# Altium footprint library MDBT42Q.PcbLib: 8 footprints
Each footprint in its own frame and in the unit in brackets; x right, y up, seen from the top. Pads: shape width x height; smd on the part's side, far side on the other; paste and mask are expansions set on the pad; w line width, h text height; cw(c..) or ccw(c..) is an arc to the next point about the centre after c.
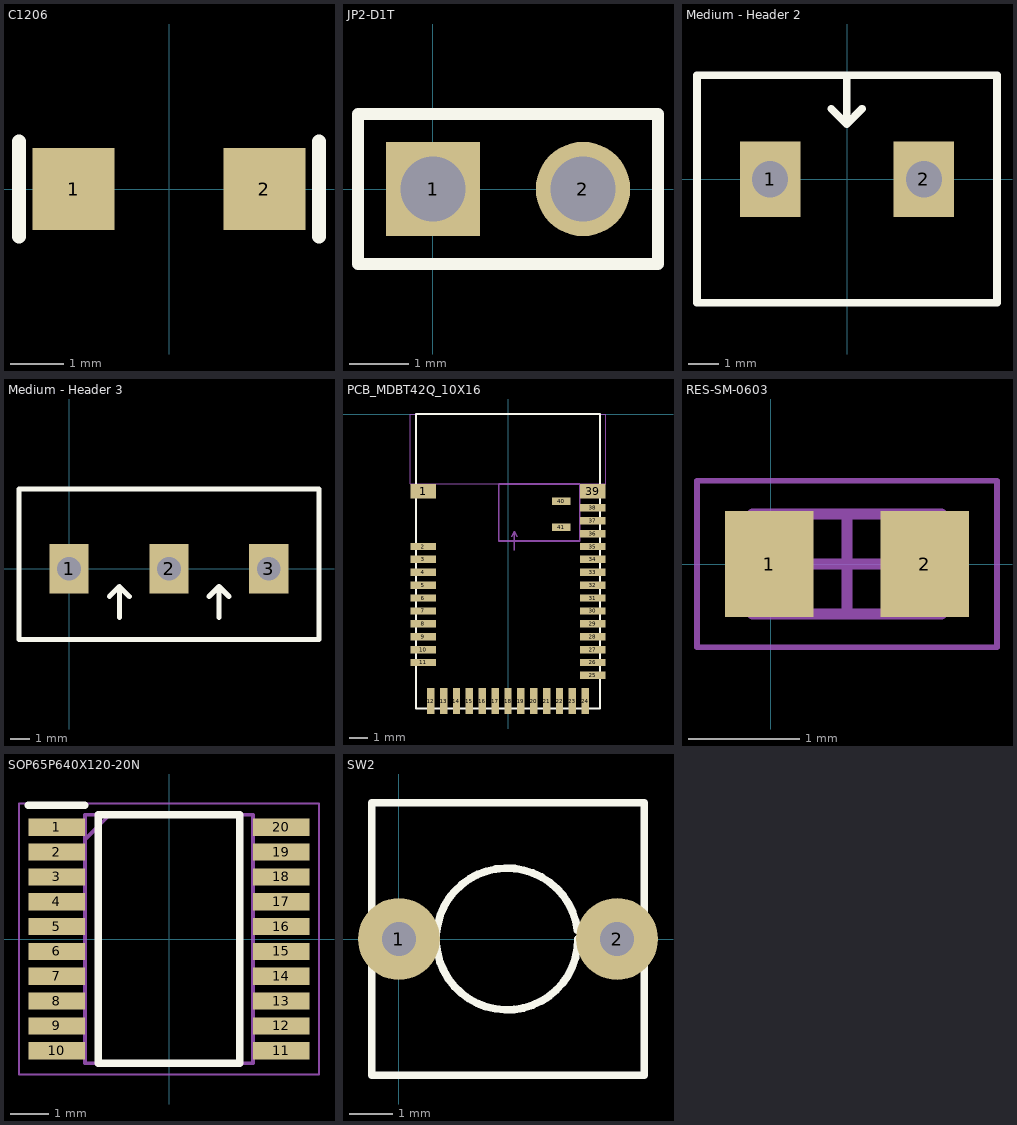
[diagram p0: the footprints below, top view; thin cyan lines are the x and y axes]

## C1206 [mil]
pads (2):
  rect 60x60 smd: 1(-70,0) 2(70,0)
Top Overlay:
  lines w10: -110,-35 -110,35 ; 110,-35 110,35
3D body: height 40, standoff 0, extent -35,-35 35,35
3D body "User Library-1206 SMD Capacitor.step": height 39.45, standoff 0, extent -62.99,-31.49 63,31.5

## JP2-D1T [mm] "2 pins, 1 row, straight, gold plating"
height 8.54
pads (2):
  rect 1.6x1.6 hole 1.1: 1(0,0)
  round 1.6 hole 1.1: 2(2.54,0)
Top Overlay:
  lines w0.2: -1.27,-1.27 3.81,-1.27 3.81,1.27 -1.27,1.27 -1.27,-1.27
3D body "61300211121.stp": height 8.54, standoff -3, extent -1.27,-1.27 3.81,1.27

## Medium - Header 2 [mm]
height 2.54
pads (2):
  rect 2x2.5 hole 1.2: 1(-2.54,0) 2(2.54,0)
Top Overlay:
  lines w0.254: -0.521,2.324 -0.013,1.816 ; -0.013,3.378 -0.013,1.816 ; 0.495,2.324 -0.013,1.816 ; -4.953,-4.077 4.953,-4.077 4.953,3.429 -4.953,3.429 -4.953,-4.077
3D body "SW3DPS-HDR1x2-MED-GREEN.STEP": height 10, standoff -4, extent -5,-4.071 5,3.429

## Medium - Header 3 [mm]
height 2.54
pads (3):
  rect 2x2.5 hole 1.2: 1(0,0) 2(5.08,0) 3(10.147,0)
Top Overlay:
  lines w0.254: 2.045,-1.41 2.553,-0.902 ; 2.553,-2.464 2.553,-0.902 ; 3.061,-1.41 2.553,-0.902 ; 7.112,-1.41 7.62,-0.902 ; 7.62,-2.464 7.62,-0.902 ; 8.128,-1.41 7.62,-0.902 ; -2.54,-3.581 -2.54,4.064 12.7,4.064 12.7,-3.581 -2.54,-3.581
3D body "SW3DPS-HDR1x3-MED-GREEN.STEP": height 10, standoff -4, extent -2.42,-3.505 12.58,3.995

## PCB_MDBT42Q_10X16 [mm]
pads (41):
  rect 1.4x0.8 smd: 1(-4.6,-4.2) 39(4.6,-4.2)
  rect 1.4x0.4 smd: 2(-4.6,-7.2) 3(-4.6,-7.9) 4(-4.6,-8.6) 5(-4.6,-9.3) 6(-4.6,-10) 7(-4.6,-10.7) 8(-4.6,-11.4) 9(-4.6,-12.1) 10(-4.6,-12.8) 11(-4.6,-13.5) 25(4.6,-14.2) 26(4.6,-13.5) 27(4.6,-12.8) 28(4.6,-12.1) 29(4.6,-11.4) 30(4.6,-10.7) 31(4.6,-10) 32(4.6,-9.3) 33(4.6,-8.6) 34(4.6,-7.9) 35(4.6,-7.2) 36(4.6,-6.5) 37(4.6,-5.8) 38(4.6,-5.1)
  rect 0.4x1.4 smd: 12(-4.2,-15.6) 13(-3.5,-15.6) 14(-2.8,-15.6) 15(-2.1,-15.6) 16(-1.4,-15.6) 17(-0.7,-15.6) 18(0,-15.6) 19(0.7,-15.6) 20(1.4,-15.6) 21(2.1,-15.6) 22(2.8,-15.6) 23(3.5,-15.6) 24(4.2,-15.6)
  rect 1x0.4 smd: 40(2.9,-4.75) 41(2.9,-6.15)
Top Overlay:
  lines w0.1: -5,-16 5,-16 5,0 0,0 -5,0 -5,-16
Mechanical 2:
  lines w0.05: -5.3,-3.8 -5.3,0 5.3,0 5.3,-3.8 3.9,-3.8 -0.5,-3.8 -5.3,-3.8
  text "No ground pad" at -2.615,-1.89 h0.45
Mechanical 3:
  lines w0.08: 0.2,-6.675 0.35,-6.375 ; 0.35,-7.4 0.35,-6.375 ; 0.5,-6.675 0.35,-6.375
  lines w0.1: -0.5,-6.9 -0.5,-3.8 3.9,-3.8 3.9,-6.9 -0.5,-6.9
  text "Toplayer no ground pad" at -2.8,-7.775 h0.3

## RES-SM-0603 [mm]
height 2.54
pads (2):
  rect 0.8x0.95 smd: 1(-0.014,0) 2(1.386,0)
Mechanical 13:
  lines w0.1: -0.164,-0.45 1.536,-0.45 1.536,0.45 -0.164,0.45 -0.164,-0.45
Mechanical 15:
  lines w0.05: -0.664,-0.75 2.036,-0.75 2.036,0.75 -0.664,0.75 -0.664,-0.75
  lines w0.1: 0.236,0 1.136,0 ; 0.686,-0.45 0.686,0.45
3D body "User Library-0603 SMD Capacitor.step": height 0.3, standoff 0, extent -0.114,-0.4 1.486,0.4

## SOP65P640X120-20N [mm]
pads (20):
  rect 1.475x0.45 smd: 1(-2.938,2.925) 2(-2.938,2.275) 3(-2.938,1.625) 4(-2.938,0.975) 5(-2.938,0.325) 6(-2.938,-0.325) 7(-2.938,-0.975) 8(-2.938,-1.625) 9(-2.938,-2.275) 10(-2.938,-2.925) 11(2.938,-2.925) 12(2.938,-2.275) 13(2.938,-1.625) 14(2.938,-0.975) 15(2.938,-0.325) 16(2.938,0.325) 17(2.938,0.975) 18(2.938,1.625) 19(2.938,2.275) 20(2.938,2.925)
Top Overlay:
  lines w0.2: -3.675,3.5 -2.2,3.5 ; -1.85,-3.25 1.85,-3.25 1.85,3.25 -1.85,3.25 -1.85,-3.25
Mechanical 15:
  lines w0.1: -2.2,2.6 -1.55,3.25 ; -2.2,-3.25 2.2,-3.25 2.2,3.25 -2.2,3.25 -2.2,-3.25
Mechanical 16:
  lines w0.05: -3.925,-3.55 3.925,-3.55 3.925,3.55 -3.925,3.55 -3.925,-3.55

## SW2 [mil] "SW button 2pin, 250x 250 mil"
height 100
pads (2):
  round 75 hole 31: 1(0,0) 2(200,0)
Top Overlay:
  lines w7: 163.64,8.26 ccw(c99.17,0) 164.17,0 ; -25,-125 225,-125 225,125 -25,125 -25,-125